# EAGLE library part AS-ITM-00238 (library tinycircuits)
SOIC 150MIL 4MBIT SERIAL FLASH SPI
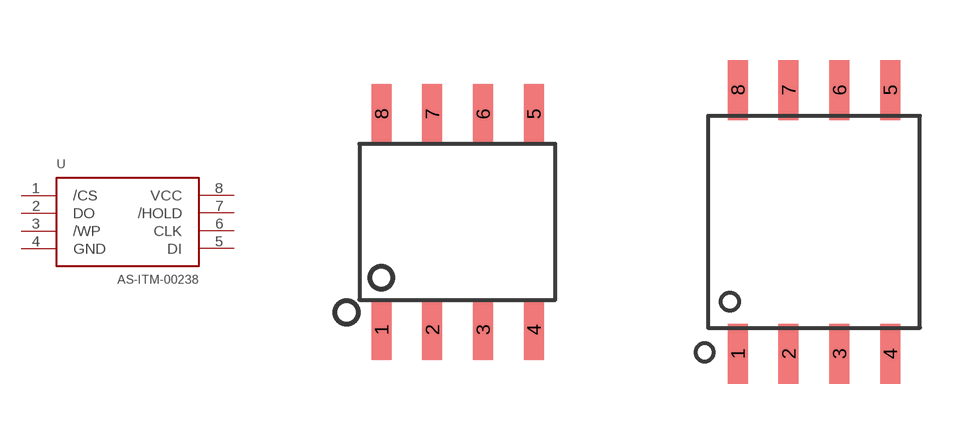
[diagram p100: symbol with the pads of 8-SOIC-N; footprints 8-SOIC-N, FPT-8P-M08]

Designator prefix U

## AS-ITM-00238 (PARTNO: AS-ITM-00238; PNPROTATION: 90; VALUE: W25Q40BVSNIG)  [8-SOIC-N]
1  /CS
2  DO
3  /WP
4  GND
5  DI
6  CLK
7  /HOLD
8  VCC

## AS-ITM-00238WIDE (PARTNO: AS-ITM-00238; VALUE: W25Q128FVSIG)  [FPT-8P-M08]
Pads as for 8-SOIC-N

## Footprint 8-SOIC-N (pad centres in mm)
smd 0.5 x 1.5: 1 -1.905,-2.7; 2 -0.635,-2.7; 3 0.635,-2.7; 4 1.905,-2.7; 5 1.905,2.7; 6 0.635,2.7; 7 -0.635,2.7; 8 -1.905,2.7

## Footprint FPT-8P-M08 (pad centres in mm)
smd 0.5 x 1.5: 1 -1.905,-3.3; 2 -0.635,-3.3; 3 0.635,-3.3; 4 1.905,-3.3; 5 1.905,3.3; 6 0.635,3.3; 7 -0.635,3.3; 8 -1.905,3.3